# Altium footprint library WE WR-COM 61400826021.PcbLib: 1 footprints
Each footprint in its own frame and in the unit in brackets; x right, y up, seen from the top. Pads: shape width x height; smd on the part's side, far side on the other; paste and mask are expansions set on the pad; w line width, h text height; cw(c..) or ccw(c..) is an arc to the next point about the centre after c.
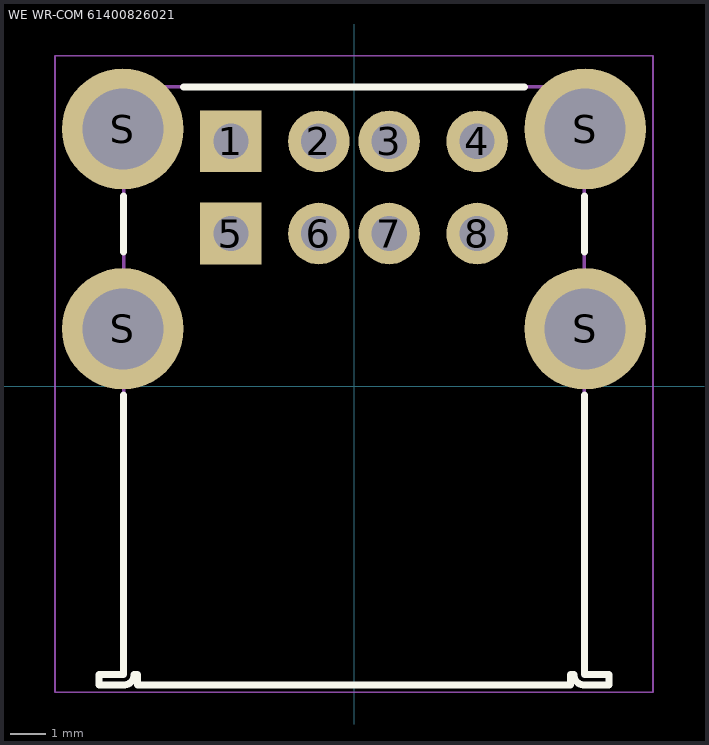
[diagram p0: the footprint, top view; thin cyan lines are the x and y axes]

## WE WR-COM 61400826021 [mm] "USB 2.0 Type A Receptacle Dual Stacked"
height 15.5
pads (12):
  rect 1.75x1.75 hole 1: 1(-3.5,6.955) 5(-3.5,4.335)
  round 1.75 hole 1: 2(-1,6.955) 3(1,6.955) 4(3.5,6.955) 6(-1,4.335) 7(1,4.335) 8(3.5,4.335)
  round 3.45 hole 2.3: S(-6.57,1.625) S(-6.57,7.305) S(6.57,1.625) S(6.57,7.305)
Top Overlay:
  lines w0.2: -6.55,-0.25 -6.55,-8.2 -7.25,-8.2 -7.25,-8.5 -6.56,-8.5 ccw(c-6.55,-8.2) -6.25,-8.2 -6.15,-8.2 -6.15,-8.5 6.15,-8.5 6.15,-8.2 6.25,-8.2 ccw(c6.55,-8.2) 6.56,-8.5 7.25,-8.5 7.25,-8.2 6.55,-8.2 6.55,-0.25 ; -6.55,3.81 -6.55,5.4 ; -4.85,8.5 4.85,8.5 ; 6.55,3.81 6.55,5.4
Top Assembly:
  lines w0.1: -7.25,-8.5 -7.25,-8.2 -6.55,-8.2 -6.55,8.5 6.55,8.5 6.55,-8.2 7.25,-8.2 7.25,-8.5 6.56,-8.5 cw(c6.55,-8.2) 6.25,-8.2 6.15,-8.2 6.15,-8.5 -6.15,-8.5 -6.15,-8.2 -6.25,-8.2 cw(c-6.55,-8.2) -6.56,-8.5 -7.25,-8.5
Top Courtyard:
  lines w0.05: -8.495,-8.7 8.495,-8.7 8.495,9.385 -8.495,9.385 -8.495,-8.7
Top Designator:
  text ".Designator" at -7.498,-0.5 h1.5
3D body "61400826021.stp": height 15.99, standoff -3.86, extent -7.913,-8.5 7.913,8.65